# Altium schematic symbol library HSRC.Schlib: 1 symbol
Pins are listed as number, name and electrical type; pins without a type are passive.

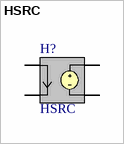
[diagram p0: symbol HSRC]

## HSRC
designator H?
Current Controlled Voltage Source
pins: 1 NC+, 2 NC-, 3 N+, 4 N-